# Altium schematic symbol library PCF1C221MCL1GS.SchLib: 2 symbols
Pins are listed as number, name and electrical type; pins without a type are passive.

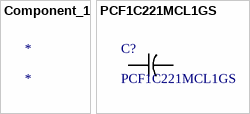
[diagram p0: symbols Component_1 to PCF1C221MCL1GS]

## Component_1
designator *

## PCF1C221MCL1GS
designator C?
No Description Available; Mfr_Name: Nichicon; Type: DEV; Copyright: Copyright (C) 2022 Ultra Librarian. All rights reserved.; Manufacturer_Part_Number: PCF1C221MCL1GS; Digi-Key_Part_Number_1: 493-3003-1-ND; Digi-Key_Part_Number_2: 493-3003-2-ND; Digi-Key_Part_Number_3: 493-3003-2-NDL; Digi-Key_Part_Number_4: 493-3003-6-ND; RefDes: RefDes
footprint CAP_CF_10X10_NCH
pins: 1, 2